# Altium integrated library 题目一考核.IntLib: 6 symbols
Pins are listed as number, name and electrical type; pins without a type are passive.

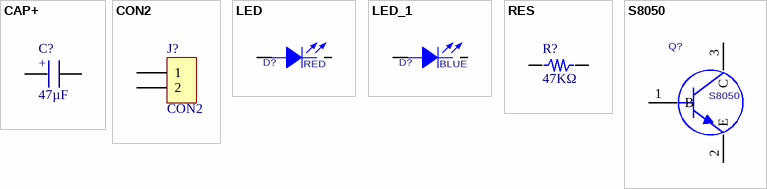
[diagram p0: symbols CAP+ to S8050]

## CAP+
designator C?, comment 47µF
footprint CAP_1
footprint CAP_2
footprint CAP_3
footprint CAP_4
footprint CAP_5
footprint CAP_6
footprint CAP_7
pins: 1, 2
text: +

## CON2
designator J?
Connector
footprint sip-2 (Footprint not found)
footprint sip-2
pins: 1, 2

## LED
designator D?  value RED  (hidden comment: LED)
PCB DECAL: LED_0603
footprint LED_0603
footprint LED_3MM
footprint LED_5MM
footprint LED_0805
pins: 1 ANODE, 2 CATHODE

## LED_1
designator D?, comment value BLUE  (hidden comment: LED)
PCB DECAL: LED_0603
footprint LED_0603
footprint LED_3MM
footprint LED_5MM
footprint LED_0805
pins: 1 ANODE, 2 CATHODE

## RES
designator R?, comment 47KΩ
footprint R_0603
footprint R_0805
footprint AXIAL0.3
footprint AXIAL0.4
footprint AXIAL0.5
footprint AXIAL0.6
footprint AXIAL0.7
footprint AXIAL0.8
footprint AXIAL0.9
footprint AXIAL1.0
pins: 1, 2

## S8050
designator Q?
NPN; PCB DECAL: SOT-23; Manufacturer #2: 8050
footprint SOT-23
footprint TO-92 (Footprint not found)
pins: 1 B, 2 E, 3 C